# EAGLE library part MT-01 (library joystick)
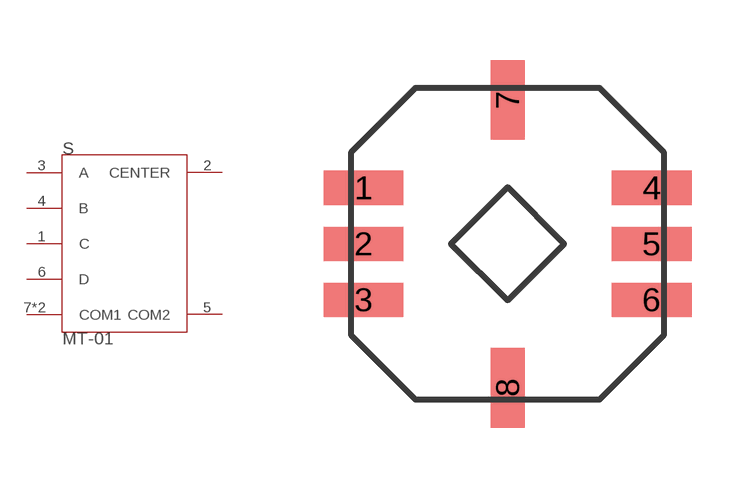
[diagram p0: symbol with the pads of JOYSTICK; footprint JOYSTICK]

Designator prefix S

## MT-01  [JOYSTICK]
1  C
2  CENTER
3  A
4  B
5  COM2
6  D
7  COM1
8  COM1

## Footprint JOYSTICK (pad centres in mm)
smd 2 x 0.85: 1 -3.6,1.4; 2 -3.6,0; 3 -3.6,-1.4; 4 3.6,1.4; 5 3.6,0; 6 3.6,-1.4
smd 0.85 x 2: 7 0,3.6; 8 0,-3.6